# Altium schematic symbol library STM32F103ZDT6.SchLib: 1 symbol
Pins are listed as number, name and electrical type; pins without a type are passive.

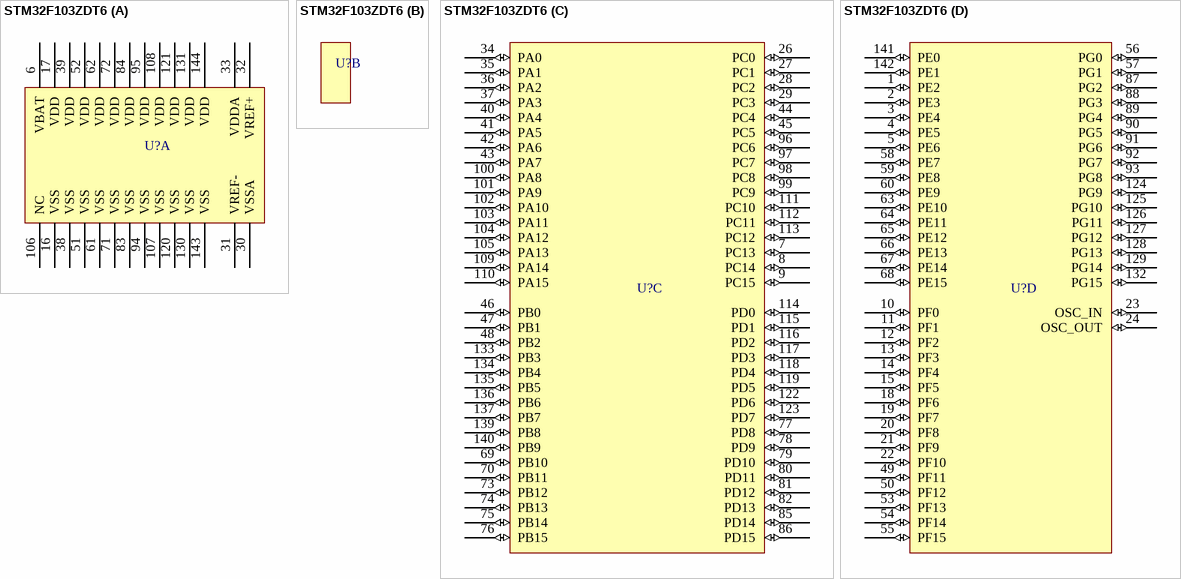
[diagram p0: symbol STM32F103ZDT6]

## STM32F103ZDT6
designator U?  (value not drawn)
Mainstream Performance line, Arm Cortex-M3 MCU with 384 Kbytes of Flash memory, 72 MHz CPU, motor control, USB and CAN
part A pins: 6 VBAT (power), 16 VSS (power), 17 VDD (power), 30 VSSA (power), 31 VREF- (power), 32 VREF+ (power), 33 VDDA (power), 38 VSS (power), 39 VDD (power), 51 VSS (power), 52 VDD (power), 61 VSS (power), 62 VDD (power), 71 VSS (power), 72 VDD (power), 83 VSS (power), 84 VDD (power), 94 VSS (power), 95 VDD (power), 106 NC, 107 VSS (power), 108 VDD (power), 120 VSS (power), 121 VDD (power), 130 VSS (power), 131 VDD (power), 143 VSS (power), 144 VDD (power)
part C pins: 7 PC13 (io), 8 PC14 (io), 9 PC15 (io), 26 PC0 (io), 27 PC1 (io), 28 PC2 (io), 29 PC3 (io), 34 PA0 (io), 35 PA1 (io), 36 PA2 (io), 37 PA3 (io), 40 PA4 (io), 41 PA5 (io), 42 PA6 (io), 43 PA7 (io), 44 PC4 (io), 45 PC5 (io), 46 PB0 (io), 47 PB1 (io), 48 PB2 (io), 69 PB10 (io), 70 PB11 (io), 73 PB12 (io), 74 PB13 (io), 75 PB14 (io), 76 PB15 (io), 77 PD8 (io), 78 PD9 (io), 79 PD10 (io), 80 PD11 (io), 81 PD12 (io), 82 PD13 (io), 85 PD14 (io), 86 PD15 (io), 96 PC6 (io), 97 PC7 (io), 98 PC8 (io), 99 PC9 (io), 100 PA8 (io), 101 PA9 (io), 102 PA10 (io), 103 PA11 (io), 104 PA12 (io), 105 PA13 (io), 109 PA14 (io), 110 PA15 (io), 111 PC10 (io), 112 PC11 (io), 113 PC12 (io), 114 PD0 (io), 115 PD1 (io), 116 PD2 (io), 117 PD3 (io), 118 PD4 (io), 119 PD5 (io), 122 PD6 (io), 123 PD7 (io), 133 PB3 (io), 134 PB4 (io), 135 PB5 (io), 136 PB6 (io), 137 PB7 (io), 139 PB8 (io), 140 PB9 (io)
part D pins: 1 PE2 (io), 2 PE3 (io), 3 PE4 (io), 4 PE5 (io), 5 PE6 (io), 10 PF0 (io), 11 PF1 (io), 12 PF2 (io), 13 PF3 (io), 14 PF4 (io), 15 PF5 (io), 18 PF6 (io), 19 PF7 (io), 20 PF8 (io), 21 PF9 (io), 22 PF10 (io), 23 OSC_IN (io), 24 OSC_OUT (io), 49 PF11 (io), 50 PF12 (io), 53 PF13 (io), 54 PF14 (io), 55 PF15 (io), 56 PG0 (io), 57 PG1 (io), 58 PE7 (io), 59 PE8 (io), 60 PE9 (io), 63 PE10 (io), 64 PE11 (io), 65 PE12 (io), 66 PE13 (io), 67 PE14 (io), 68 PE15 (io), 87 PG2 (io), 88 PG3 (io), 89 PG4 (io), 90 PG5 (io), 91 PG6 (io), 92 PG7 (io), 93 PG8 (io), 124 PG9 (io), 125 PG10 (io), 126 PG11 (io), 127 PG12 (io), 128 PG13 (io), 129 PG14 (io), 132 PG15 (io), 141 PE0 (io), 142 PE1 (io)